# Altium schematic symbol library SnapEDAsch.SchLib: 1 symbol
Pins are listed as number, name and electrical type; pins without a type are passive.

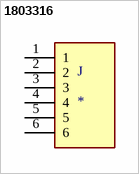
[diagram p0: symbol 1803316]

## 1803316
designator J
6 Position Terminal Block Header, Male Pins, Shrouded _4 Side_ 0.150 _3.81mm_ 90Â°, Right Angle Through Hole; MF: Phoenix Contact; MP: 1803316; Price: None; Availability: Unavailable; Package: None; SnapEDA_Link: https://www.snapeda.com/parts/1803316/Phoenix%20Contact/view-part/681506/?ref=snap; Value: *
footprint PHOENIX_1803316
pins: 1, 2, 3, 4, 5, 6